# Altium schematic symbol library Sch.SchLib: 9 symbols
Pins are listed as number, name and electrical type; pins without a type are passive.

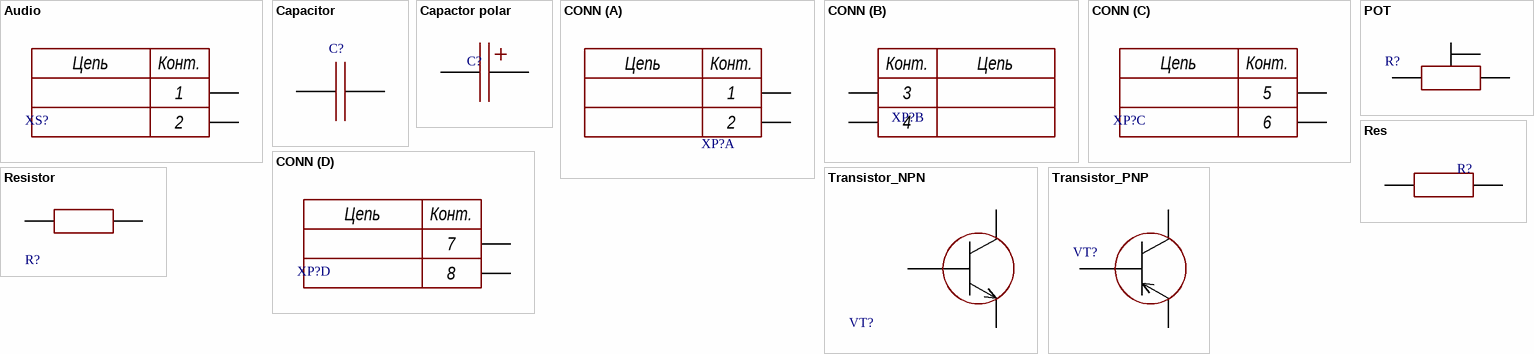
[diagram p0: symbols Audio to Transistor_PNP]

## Audio
designator XS?  (value not drawn)
footprint FP-NMJ4HFD2-MFG
pins: 1, 2
text: Цепь; Конт.

## Capacitor
designator C?  (value not drawn)
footprint C_PLY_26X8 (CAP, POLYESTER, 26.0X7.8mm pitch: 22.5mm, 0.68uF 400V)
footprint C_PLY_22X7 (CAP, POLYESTER, 33.0X7.0mm pitch: 20.0mm, 0.68uF 400V)
footprint C_PLY_12X4 (CAP, POLYESTER, 12.5X4.5X9.0 pitch: 10mm)
footprint C_PLY_7X5 (CAP, POLYESTER, 7.0X5.0mm pitch: 5.0mm)
footprint C_PLY_10X5 (CAP, POLYESTER, 10X5.5mm pitch: 7.6mm)
pins: 1, 2

## Capactor polar
designator C?  (value not drawn)
footprint C_EL_4X7 (Cap Elec, D4.0X7.0H pitch: 1.5mm)
footprint C_EL_5X7 (Cap Elec, D5.0X7.0H pitch: 2mm)
footprint C_EL_5X11 (Cap Elec, D5.0X11.0H pitch: 2mm)
footprint C_EL_6X11 (Cap Elec, D6.3X11.0H pitch: 2.5mm)
footprint C_EL_12X25 (Cap Elec, D12.0X25.0H pitch: 5.0mm, RB.2/.5)
pins: 1, 2

## CONN
designator XP?  (value not drawn)
footprint MOLEX_430450821
part A pins: 1, 2
part B pins: 3, 4
part C pins: 5, 6
part D pins: 7, 8
part A text: Цепь; Конт.
part B text: Конт.; Цепь
part C text: Цепь; Конт.
part D text: Цепь; Конт.

## POT
designator R?  (value not drawn)
footprint POT_3296W (POT, TRIM, 10.0X5.0mm, pitch: 2.5mm 3299W 3296W S64W)
footprint POT_3262W (POT, TRIM, 4.3X6.6mm 3262W)
footprint POT_3296X (POT, TRIM, 10.0X5.0mm, pitch: 2.5mm, MURATA, PV36X 3296X)
footprint POT_3296Y (POT, TRIM, 10.0X5.0mm, pitch: 2.5mm, MURATA, PV36Y 3296Y S64Y)
footprint POT_3296Z (POT, TRIM, 10.0X5.0mm, pitch: 2.5mm, 3296Z)
pins: 1, 2, 3

## Res
designator R?  (value not drawn)
footprint R0125W_AX025 (RESISTOR 1/8 WATT, AXIAL0.25)
footprint R1W_AX06 (RESISTOR 1 WATT, AXIAL0.6)
footprint R2W_AX08 (RESISTOR 2 WATT, AXIAL0.8)
pins: 1, 2

## Resistor
designator R?
Power Rating: 1W; Temperature Coefficient: 200ppm/°C; Tolerance: 5%; Voltage Rating (DC): 200V; Resistance: 51R; Width: 0.126inch; Case/Package: 2512; Series: MCR; Min Operating Temperature: -55°C; Mount: Surface Mount; Number of Terminations: 2; RoHS Compliant: Yes; Height: 0.028inch; Case Code (Metric): 6432; Length: 0.248inch; Packaging: Tape and Reel; Max Power Dissipation: 1W; Package Quantity: 1; Max Operating Temperature: 125°C; Lead Free: Lead Free; Case Code (Imperial): 2512; Resistor Type: Thick Film; Size Code: 2512
footprint FP-MCR100-IPC_A
footprint FP-MCR100-MFG
footprint FP-MCR100-IPC_C
footprint FP-MCR100-IPC_B
footprint R1W_AX06 (RESISTOR 1 WATT, AXIAL0.6)
footprint R2W_AX08 (RESISTOR 2 WATT, AXIAL0.8)
footprint R2W_AX_VER (RESISTOR 2 WATT, AXIAL0.8)
footprint R3W_AX09 (RESISTOR 3 WATT, AXIAL0.9)
footprint R05W_AX05 (RESISTOR 0.5 WATT, AXIAL0.5)
footprint R025W_AX_VER (RESISTOR 1/4 WATT, AXIAL0.4)
footprint R0125W_AX_VER (RESISTOR 1/8 WATT, AXIAL0.25)
footprint R0125W_AX025 (RESISTOR 1/8 WATT, AXIAL0.25)
pins: 1, 2

## Transistor_NPN
designator VT?, comment BD139G  (value not drawn)
NexarPartId: 354669; Manufacturer Lifecycle Status: ACTIVE; Collector Emitter Saturation Voltage: 500mV; Collector Emitter Breakdown Voltage: 80V; hFE Min: 25; Element Configuration: Single; Max Power Dissipation: 1.25W; Max Junction Temperature (Tj): 150°C; Emitter Base Voltage (VEBO): 5V; Max Collector Current: 1.5A; Number of Elements: 1; Polarity: NPN; Min Operating Temperature: -55°C; Max Operating Temperature: 150°C; Voltage Rating (DC): 80V; REACH SVHC: No SVHC; Radiation Hardening: No; Contact Plating: Tin; Schedule B: 8541290080, 8541290080|8541290080, 8541290080|8541290080|8541290080, 8541290080|8541290080|8541290080|8541290080; Number of Pins: 3; Case/Package: TO-225; Lifecycle Status: Production; Collector Base Voltage (VCBO): 80V; Weight: 4.535924g; Height: 11.04mm; RoHS: Compliant; Width: 2.66mm; Collector Emitter Voltage (VCEO): 80V; Lead Free: Lead Free; Current Rating: 1.5A; Power Dissipation: 1.25W; Packaging: Bulk; Length: 7.74mm
footprint TO126_3 (TO126, TO-126, SOT32 (PHIPLIPS), pitch: 2.3mm, 8X3mm)
footprint TO247_3 (TO247, TO-247, TO-3P pitch: 5.5mm 16x5mm, TO-218)
footprint TO220_3 (TO-220 3 LEAD, TO-262, pitch: 2.54mm  10x4.5mm)
pins: 1 E, 2 C, 3 B

## Transistor_PNP
designator VT?  (value not drawn)
footprint TO126_3 (TO126, TO-126, SOT32 (PHIPLIPS), pitch: 2.3mm, 8X3mm)
footprint TO92_3 (TO-92, SOT54)
footprint TO247_3 (TO247, TO-247, TO-3P pitch: 5.5mm 16x5mm, TO-218)
footprint TO92_3FB (TO-92 formed leads, TO-226, SOT54A)
pins: 1 E, 2 C, 3 B